# EAGLE library part SHIFT_REG (library open-ephys)
Texas instruments serial-in, parallel-out shift register
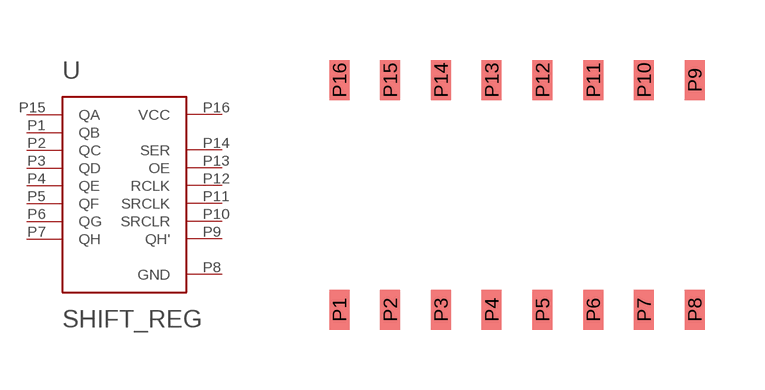
[diagram p6: symbol with the pads of 16-SOIC; footprint 16-SOIC]

Designator prefix -

## SHIFT_REG  [16-SOIC]
P1  QB
P2  QC
P3  QD
P4  QE
P5  QF
P6  QG
P7  QH
P8  GND
P9  QH'
P10  SRCLR
P11  SRCLK
P12  RCLK
P13  OE
P14  SER
P15  QA
P16  VCC

## Footprint 16-SOIC (pad centres in mm)
smd 0.5 x 1: P1 0,0; P2 1.27,0; P3 2.54,0; P4 3.81,0; P5 5.08,0; P6 6.35,0; P7 7.62,0; P8 8.89,0; P9 8.89,5.75; P10 7.62,5.75; P11 6.35,5.75; P12 5.08,5.75; P13 3.81,5.75; P14 2.54,5.75; P15 1.27,5.75; P16 0,5.75